# EAGLE library part 416131160803 (library Eagle_Wuerth_Elektronik_Switch)
WS-HP-1.27 mm small compact SMD Dip Switch with top tape,6 pins,3 poles
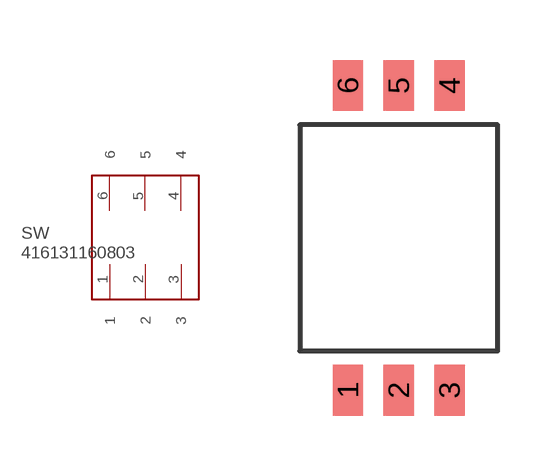
[diagram p23: symbol with the pads of 416131160803; footprint 416131160803]

Designator prefix SW

## 416131160803  [416131160803]
1  1
2  2
3  3
4  4
5  5
6  6

## Footprint 416131160803 (pad centres in mm)
WS-HP-1.27 mm small compact SMD Dip Switch with top tape,6 pins,3 poles
smd 0.76 x 1.27: 1 0,-3.81; 2 1.27,-3.81; 3 2.54,-3.81; 4 2.54,3.81; 5 1.27,3.81; 6 0,3.81